# Altium footprint library pcbComponent.PCBLIB: 67 footprints (part 4 of 5)
Each footprint in its own frame and in the unit in brackets; x right, y up, seen from the top. Pads: shape width x height; smd on the part's side, far side on the other; paste and mask are expansions set on the pad; w line width, h text height; cw(c..) or ccw(c..) is an arc to the next point about the centre after c.
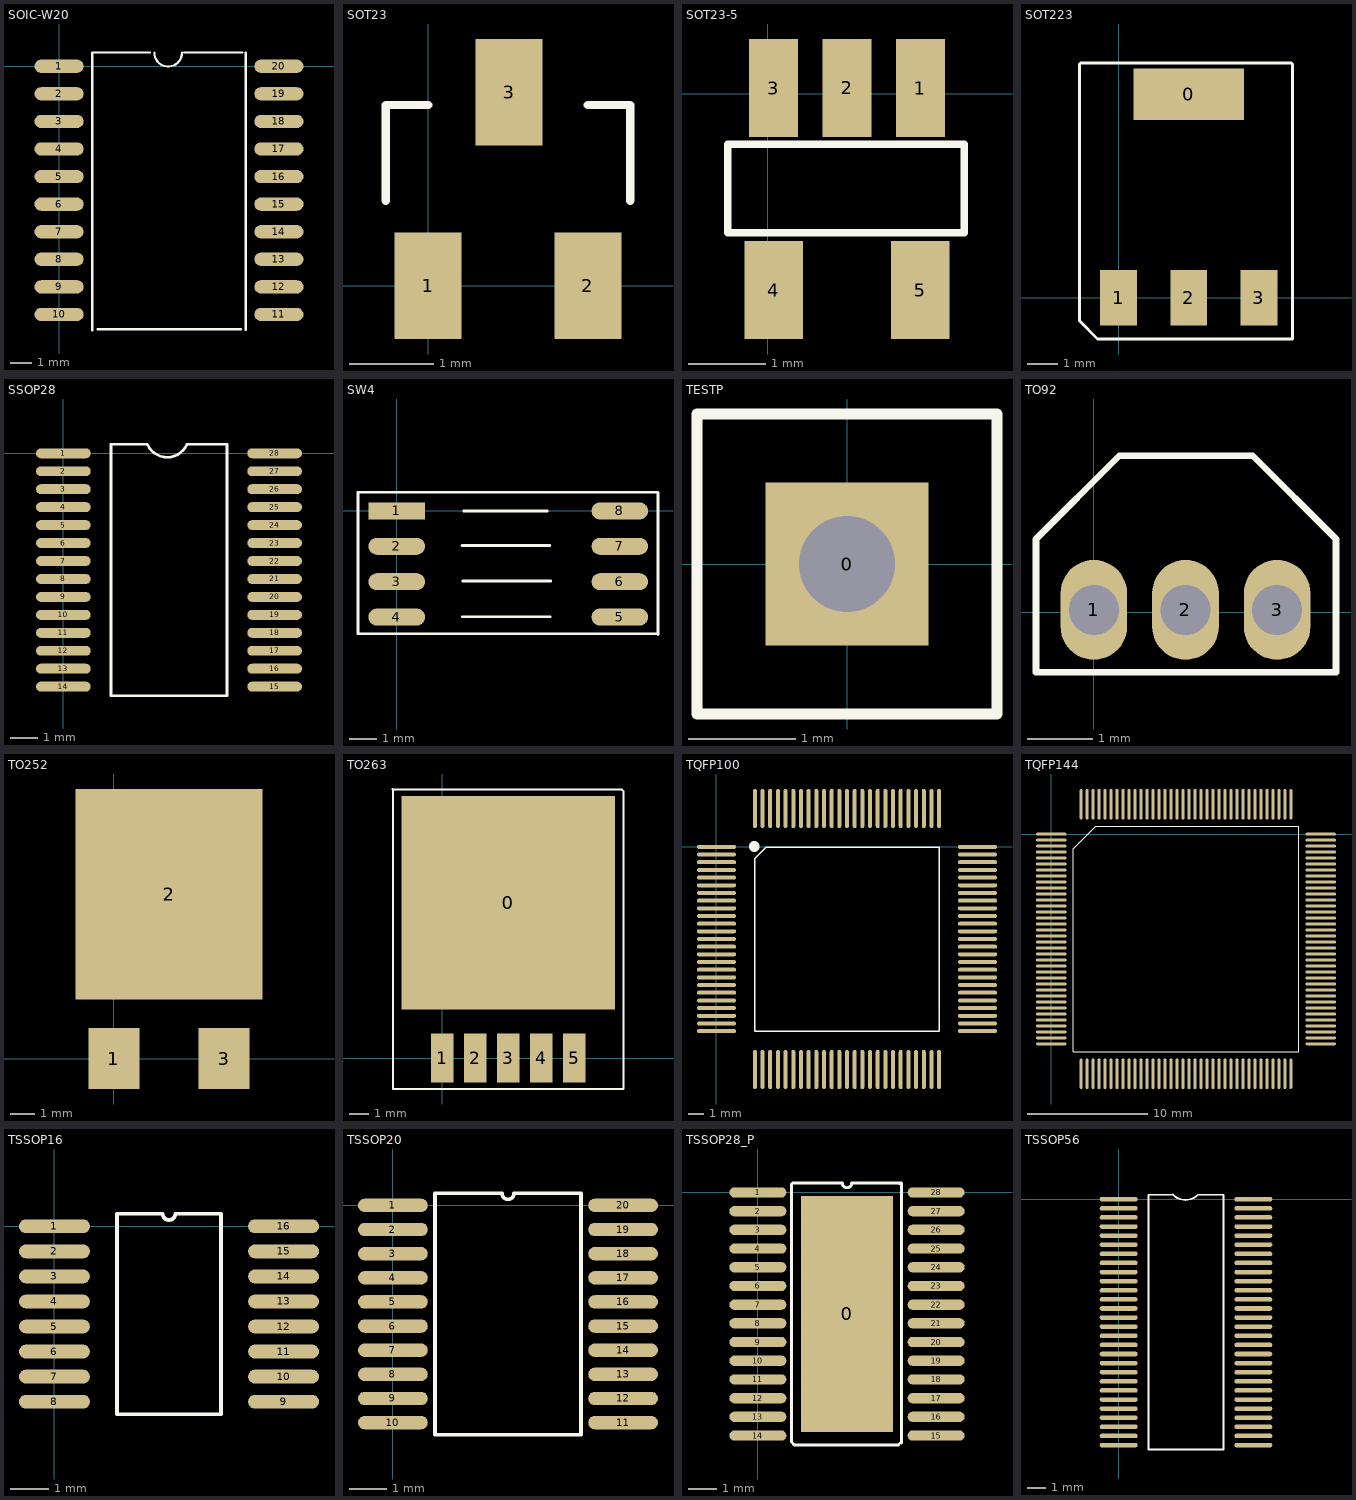
[diagram p3: the footprints below, top view; thin cyan lines are the x and y axes]

## SOIC-W20 [mil]
pads (20):
  oval 89.06x24 smd: 1(0,0) 2(0,-50) 3(0,-100) 4(0,-150) 5(0,-200) 6(0,-250) 7(0,-300) 8(0,-350) 9(0,-400) 10(0,-450) 11(398.62,-450) 12(398.62,-400) 13(398.62,-350) 14(398.62,-300) 15(398.62,-250) 16(398.62,-200) 17(398.62,-150) 18(398.62,-100) 19(398.62,-50) 20(398.62,0)
TopOverlay:
  lines w3.94: 172.83,24.41 ccw(c197.83,24.41) 222.83,24.41
  lines w4: 60,-479.17 60,-375 60,25 165,25 ; 70.12,-476.77 330.12,-476.77 ; 226.97,25 331.97,25 ; 338.62,-478.31 338.62,-375.2 338.62,24.8

## SOT23 [mm]
pads (3):
  rect 0.8x1.27 smd: 1(0,0) 2(1.905,0) 3(0.965,2.311)
TopOverlay:
  lines w0.1: -0.508,1.016 -0.508,2.159 0,2.159 ; 1.905,2.159 2.413,2.159 2.413,1.016

## SOT23-5 [mm]
pads (5):
  rect 0.64x1.27 smd: 1(1.98,0.075) 2(1.028,0.076) 3(0.075,0.075)
  rect 0.76x1.27 smd: 4(0.075,-2.545) 5(1.98,-2.545)
TopOverlay:
  lines w0.1: 2.535,-1.8 -0.52,-1.8 -0.52,-0.655 2.55,-0.655 2.55,-1.8

## SOT223 [mm]
pads (4):
  rect 3.6x1.68 smd: 0(2.285,6.63)
  rect 1.2x1.8 smd: 1(0,0) 2(2.286,0) 3(4.572,0)
TopOverlay:
  lines w0.1: -1.27,7.62 -1.27,-0.762 -0.686,-1.346 5.664,-1.346 5.664,7.442 5.664,7.62 ; -1.245,7.645 -1.118,7.645 5.639,7.645

## SSOP28 [mm]
pads (28):
  oval 1.98x0.36 smd: 1(0,0) 2(0,-0.65) 3(0,-1.3) 4(0,-1.95) 5(0,-2.6) 6(0,-3.25) 7(0,-3.9) 8(0,-4.55) 9(0,-5.2) 10(0,-5.85) 11(0,-6.5) 12(0,-7.15) 13(0,-7.8) 14(0,-8.45) 15(7.65,-8.45) 16(7.65,-7.8) 17(7.65,-7.15) 18(7.65,-6.5) 19(7.65,-5.85) 20(7.65,-5.2) 21(7.65,-4.55) 22(7.65,-3.9) 23(7.65,-3.25) 24(7.65,-2.6) 25(7.65,-1.95) 26(7.65,-1.3) 27(7.65,-0.65) 28(7.65,0)
TopOverlay:
  lines w0.1: 3.035,0.325 1.725,0.325 1.725,-8.775 5.925,-8.775 5.925,0.325 ; 3.05,0.311 ccw(c3.76,0.64) 4.477,0.326 5.924,0.326

## SW4 [mil]
pads (8):
  rect 80x24 smd: 1(0,0)
  oval 80x24 smd: 2(0,-50) 3(0,-100) 4(0,-150) 5(314.96,-150) 6(314.96,-100) 7(314.96,-50) 8(314.96,0)
TopOverlay:
  lines w3.94: 92.32,-48.82 215.94,-48.82 ; 92.52,-149.61 216.73,-149.61 ; 93.11,-98.82 217.52,-98.82 ; 94.49,0 212.6,0 ; 368.11,-173.62 -54.72,-173.62 -54.72,26.38 368.11,26.38 ; 368.9,-174.41 368.9,25.59

## TESTP [mil]
pads (1):
  rect 60x60 hole 35.43: 0(0,0)
TopOverlay:
  lines w3.94: -55.12,-55.12 55.12,-55.12 55.12,55.12 -55.12,55.12 -55.12,0 -55.12,-55.12

## TO92 [mil]
pads (3):
  oval 40x60 hole 30: 1(0,1.57) 2(55,1.57) 3(110,1.57)
TopOverlay:
  lines w3.94: -34.69,-35.91 -34.69,44.09 15.31,94.09 95.31,94.09 145.31,44.09 145.31,-35.91 -34.69,-35.91

## TO252 [mm]
pads (3):
  rect 2.12x2.54 smd: 1(0,0) 3(4.6,0)
  rect 7.8x8.8 smd: 2(2.3,6.86)

## TO263 [mm]
pads (6):
  rect 11x11 smd: 0(3.4,8)
  rect 1.168x2.54 smd: 1(0,0) 2(1.7,0) 3(3.4,0) 4(5.1,0) 5(6.8,0)
TopOverlay:
  lines w0.102: -2.575,13.87 -2.545,13.84 ; -2.545,13.84 -2.545,2.17 -2.545,-1.595 -2.54,-1.59 9.34,-1.59 9.34,13.755 9.255,13.84 -2.545,13.84

## TQFP100 [mm]
pads (100):
  oval 2.54x0.262 smd: 1(0,0) 2(0,-0.5) 3(0,-1) 4(0,-1.5) 5(0,-2) 6(0,-2.5) 7(0,-3) 8(0,-3.5) 9(0,-4) 10(0,-4.5) 11(0,-5) 12(0,-5.5) 13(0,-6) 14(0,-6.5) 15(0,-7) 16(0,-7.5) 17(0,-8) 18(0,-8.5) 19(0,-9) 20(0,-9.5) 21(0,-10) 22(0,-10.5) 23(0,-11) 24(0,-11.5) 25(0,-12) 51(17,-12) 52(17,-11.5) 53(17,-11) 54(17,-10.5) 55(17,-10) 56(17,-9.5) 57(17,-9) 58(17,-8.5) 59(17,-8) 60(17,-7.5) 61(17,-7) 62(17,-6.5) 63(17,-6) 64(17,-5.5) 65(17,-5) 66(17,-4.5) 67(17,-4) 68(17,-3.5) 69(17,-3) 70(17,-2.5) 71(17,-2) 72(17,-1.5) 73(17,-1) 74(17,-0.5) 75(17,0)
  oval 0.262x2.54 smd: 26(2.5,-14.5) 27(3,-14.5) 28(3.5,-14.5) 29(4,-14.5) 30(4.5,-14.5) 31(5,-14.5) 32(5.5,-14.5) 33(6,-14.5) 34(6.5,-14.5) 35(7,-14.5) 36(7.5,-14.5) 37(8,-14.5) 38(8.5,-14.5) 39(9,-14.5) 40(9.5,-14.5) 41(10,-14.5) 42(10.5,-14.5) 43(11,-14.5) 44(11.5,-14.5) 45(12,-14.5) 46(12.5,-14.5) 47(13,-14.5) 48(13.5,-14.5) 49(14,-14.5) 50(14.5,-14.5) 76(14.5,2.5) 77(14,2.5) 78(13.5,2.5) 79(13,2.5) 80(12.5,2.5) 81(12,2.5) 82(11.5,2.5) 83(11,2.5) 84(10.5,2.5) 85(10,2.5) 86(9.5,2.5) 87(9,2.5) 88(8.5,2.5) 89(8,2.5) 90(7.5,2.5) 91(7,2.5) 92(6.5,2.5) 93(6,2.5) 94(5.5,2.5) 95(5,2.5) 96(4.5,2.5) 97(4,2.5) 98(3.5,2.5) 99(3,2.5) 100(2.5,2.5)
TopOverlay:
  lines w0.1: 2.488,-12.014 14.5,-12.014 14.5,-0.025 3.226,-0.025 2.488,-0.763 ; 2.5,-11.998 2.5,-0.763
  lines w0.68: 2.47,-0.005 2.47,0.03

## TQFP144 [mm]
pads (144):
  oval 2.54x0.262 smd: 1(0,0) 2(0,-0.5) 3(0,-1) 4(0,-1.5) 5(0,-2) 6(0,-2.5) 7(0,-3) 8(0,-3.5) 9(0,-4) 10(0,-4.5) 11(0,-5) 12(0,-5.5) 13(0,-6) 14(0,-6.5) 15(0,-7) 16(0,-7.5) 17(0,-8) 18(0,-8.5) 19(0,-9) 20(0,-9.5) 21(0,-10) 22(0,-10.5) 23(0,-11) 24(0,-11.5) 25(0,-12) 26(0,-12.5) 27(0,-13) 28(0,-13.5) 29(0,-14) 30(0,-14.5) 31(0,-15) 32(0,-15.5) 33(0,-16) 34(0,-16.5) 35(0,-17) 36(0,-17.5) 73(22.5,-17.5) 74(22.5,-17) 75(22.5,-16.5) 76(22.5,-16) 77(22.5,-15.5) 78(22.5,-15) 79(22.5,-14.5) 80(22.5,-14) 81(22.5,-13.5) 82(22.5,-13) 83(22.5,-12.5) 84(22.5,-12) 85(22.5,-11.5) 86(22.5,-11) 87(22.5,-10.5) 88(22.5,-10) 89(22.5,-9.5) 90(22.5,-9) 91(22.5,-8.5) 92(22.5,-8) 93(22.5,-7.5) 94(22.5,-7) 95(22.5,-6.5) 96(22.5,-6) 97(22.5,-5.5) 98(22.5,-5) 99(22.5,-4.5) 100(22.5,-4) 101(22.5,-3.5) 102(22.5,-3) 103(22.5,-2.5) 104(22.5,-2) 105(22.5,-1.5) 106(22.5,-1) 107(22.5,-0.5) 108(22.5,0)
  oval 0.262x2.54 smd: 37(2.5,-20) 38(3,-20) 39(3.5,-20) 40(4,-20) 41(4.5,-20) 42(5,-20) 43(5.5,-20) 44(6,-20) 45(6.5,-20) 46(7,-20) 47(7.5,-20) 48(8,-20) 49(8.5,-20) 50(9,-20) 51(9.5,-20) 52(10,-20) 53(10.5,-20) 54(11,-20) 55(11.5,-20) 56(12,-20) 57(12.5,-20) 58(13,-20) 59(13.5,-20) 60(14,-20) 61(14.5,-20) 62(15,-20) 63(15.5,-20) 64(16,-20) 65(16.5,-20) 66(17,-20) 67(17.5,-20) 68(18,-20) 69(18.5,-20) 70(19,-20) 71(19.5,-20) 72(20,-20) 109(20,2.5) 110(19.5,2.5) 111(19,2.5) 112(18.5,2.5) 113(18,2.5) 114(17.5,2.5) 115(17,2.5) 116(16.5,2.5) 117(16,2.5) 118(15.5,2.5) 119(15,2.5) 120(14.5,2.5) 121(14,2.5) 122(13.5,2.5) 123(13,2.5) 124(12.5,2.5) 125(12,2.5) 126(11.5,2.5) 127(11,2.5) 128(10.5,2.5) 129(10,2.5) 130(9.5,2.5) 131(9,2.5) 132(8.5,2.5) 133(8,2.5) 134(7.5,2.5) 135(7,2.5) 136(6.5,2.5) 137(6,2.5) 138(5.5,2.5) 139(5,2.5) 140(4.5,2.5) 141(4,2.5) 142(3.5,2.5) 143(3,2.5) 144(2.5,2.5)
TopOverlay:
  lines w0.1: 1.855,-18.145 20.645,-18.145 20.645,0.645 3.71,0.645 1.855,-1.21 1.855,-18.145

## TSSOP16 [mm]
pads (16):
  oval 1.84x0.36 smd: 1(0,0) 2(0,-0.65) 3(0,-1.3) 4(0,-1.95) 5(0,-2.6) 6(0,-3.25) 7(0,-3.9) 8(0,-4.55) 9(5.94,-4.55) 10(5.94,-3.9) 11(5.94,-3.25) 12(5.94,-2.6) 13(5.94,-1.95) 14(5.94,-1.3) 15(5.94,-0.65) 16(5.94,0)
TopOverlay:
  lines w0.1: 1.625,-4.875 4.315,-4.875 4.315,0.325 3.132,0.325 cw(c2.97,0.325) 2.808,0.325 1.625,0.325 1.625,-4.875

## TSSOP20 [mm]
pads (20):
  oval 1.88x0.36 smd: 1(0,0) 2(0,-0.65) 3(0,-1.3) 4(0,-1.95) 5(0,-2.6) 6(0,-3.25) 7(0,-3.9) 8(0,-4.55) 9(0,-5.2) 10(0,-5.85) 11(6.2,-5.85) 12(6.2,-5.2) 13(6.2,-4.55) 14(6.2,-3.9) 15(6.2,-3.25) 16(6.2,-2.6) 17(6.2,-1.95) 18(6.2,-1.3) 19(6.2,-0.65) 20(6.2,0)
TopOverlay:
  lines w0.1: 1.135,-6.175 5.065,-6.175 5.065,0.325 3.262,0.325 cw(c3.1,0.325) 2.937,0.325 1.135,0.325 1.135,-6.175

## TSSOP28_P [mm]
pads (29):
  rect 3.2x8.2 smd: 0(3.1,-4.225)
  oval 1.98x0.36 smd: 1(0,0) 2(0,-0.65) 3(0,-1.3) 4(0,-1.95) 5(0,-2.6) 6(0,-3.25) 7(0,-3.9) 8(0,-4.55) 9(0,-5.2) 10(0,-5.85) 11(0,-6.5) 12(0,-7.15) 13(0,-7.8) 14(0,-8.45) 15(6.2,-8.45) 16(6.2,-7.8) 17(6.2,-7.15) 18(6.2,-6.5) 19(6.2,-5.85) 20(6.2,-5.2) 21(6.2,-4.55) 22(6.2,-3.9) 23(6.2,-3.25) 24(6.2,-2.6) 25(6.2,-1.95) 26(6.2,-1.3) 27(6.2,-0.65) 28(6.2,0)
TopOverlay:
  lines w0.1: 4.93,-8.73 4.885,-8.775 4.525,-8.775 1.675,-8.775 1.265,-8.775 1.17,-8.68 1.17,0.295 1.2,0.325 1.675,0.325 2.937,0.325 ccw(c3.1,0.325) 3.262,0.325 4.525,0.325 4.95,0.325 4.93,0.305 ; 5,-8.71 5,0.325

## TSSOP56 [mm]
pads (56):
  oval 2.08x0.25 smd: 1(0,0) 2(0,-0.5) 3(0,-1) 4(0,-1.5) 5(0,-2) 6(0,-2.5) 7(0,-3) 8(0,-3.5) 9(0,-4) 10(0,-4.5) 11(0,-5) 12(0,-5.5) 13(0,-6) 14(0,-6.5) 15(0,-7) 16(0,-7.5) 17(0,-8) 18(0,-8.5) 19(0,-9) 20(0,-9.5) 21(0,-10) 22(0,-10.5) 23(0,-11) 24(0,-11.5) 25(0,-12) 26(0,-12.5) 27(0,-13) 28(0,-13.5) 29(7.4,-13.5) 30(7.4,-13) 31(7.4,-12.5) 32(7.4,-12) 33(7.4,-11.5) 34(7.4,-11) 35(7.4,-10.5) 36(7.4,-10) 37(7.4,-9.5) 38(7.4,-9) 39(7.4,-8.5) 40(7.4,-8) 41(7.4,-7.5) 42(7.4,-7) 43(7.4,-6.5) 44(7.4,-6) 45(7.4,-5.5) 46(7.4,-5) 47(7.4,-4.5) 48(7.4,-4) 49(7.4,-3.5) 50(7.4,-3) 51(7.4,-2.5) 52(7.4,-2) 53(7.4,-1.5) 54(7.4,-1) 55(7.4,-0.5) 56(7.4,0)
TopOverlay:
  lines w0.1: 2.99,0.265 2.975,0.25 ; 2.975,0.25 ccw(c3.672,0.947) 4.37,0.25 5.765,0.25 5.765,-13.75 1.635,-13.75 1.635,0.25 2.785,0.25 2.975,0.25